# Altium schematic symbol library Amplifiers.SchLib: 48 symbols (part 1 of 3)
Pins are listed as number, name and electrical type; pins without a type are passive.

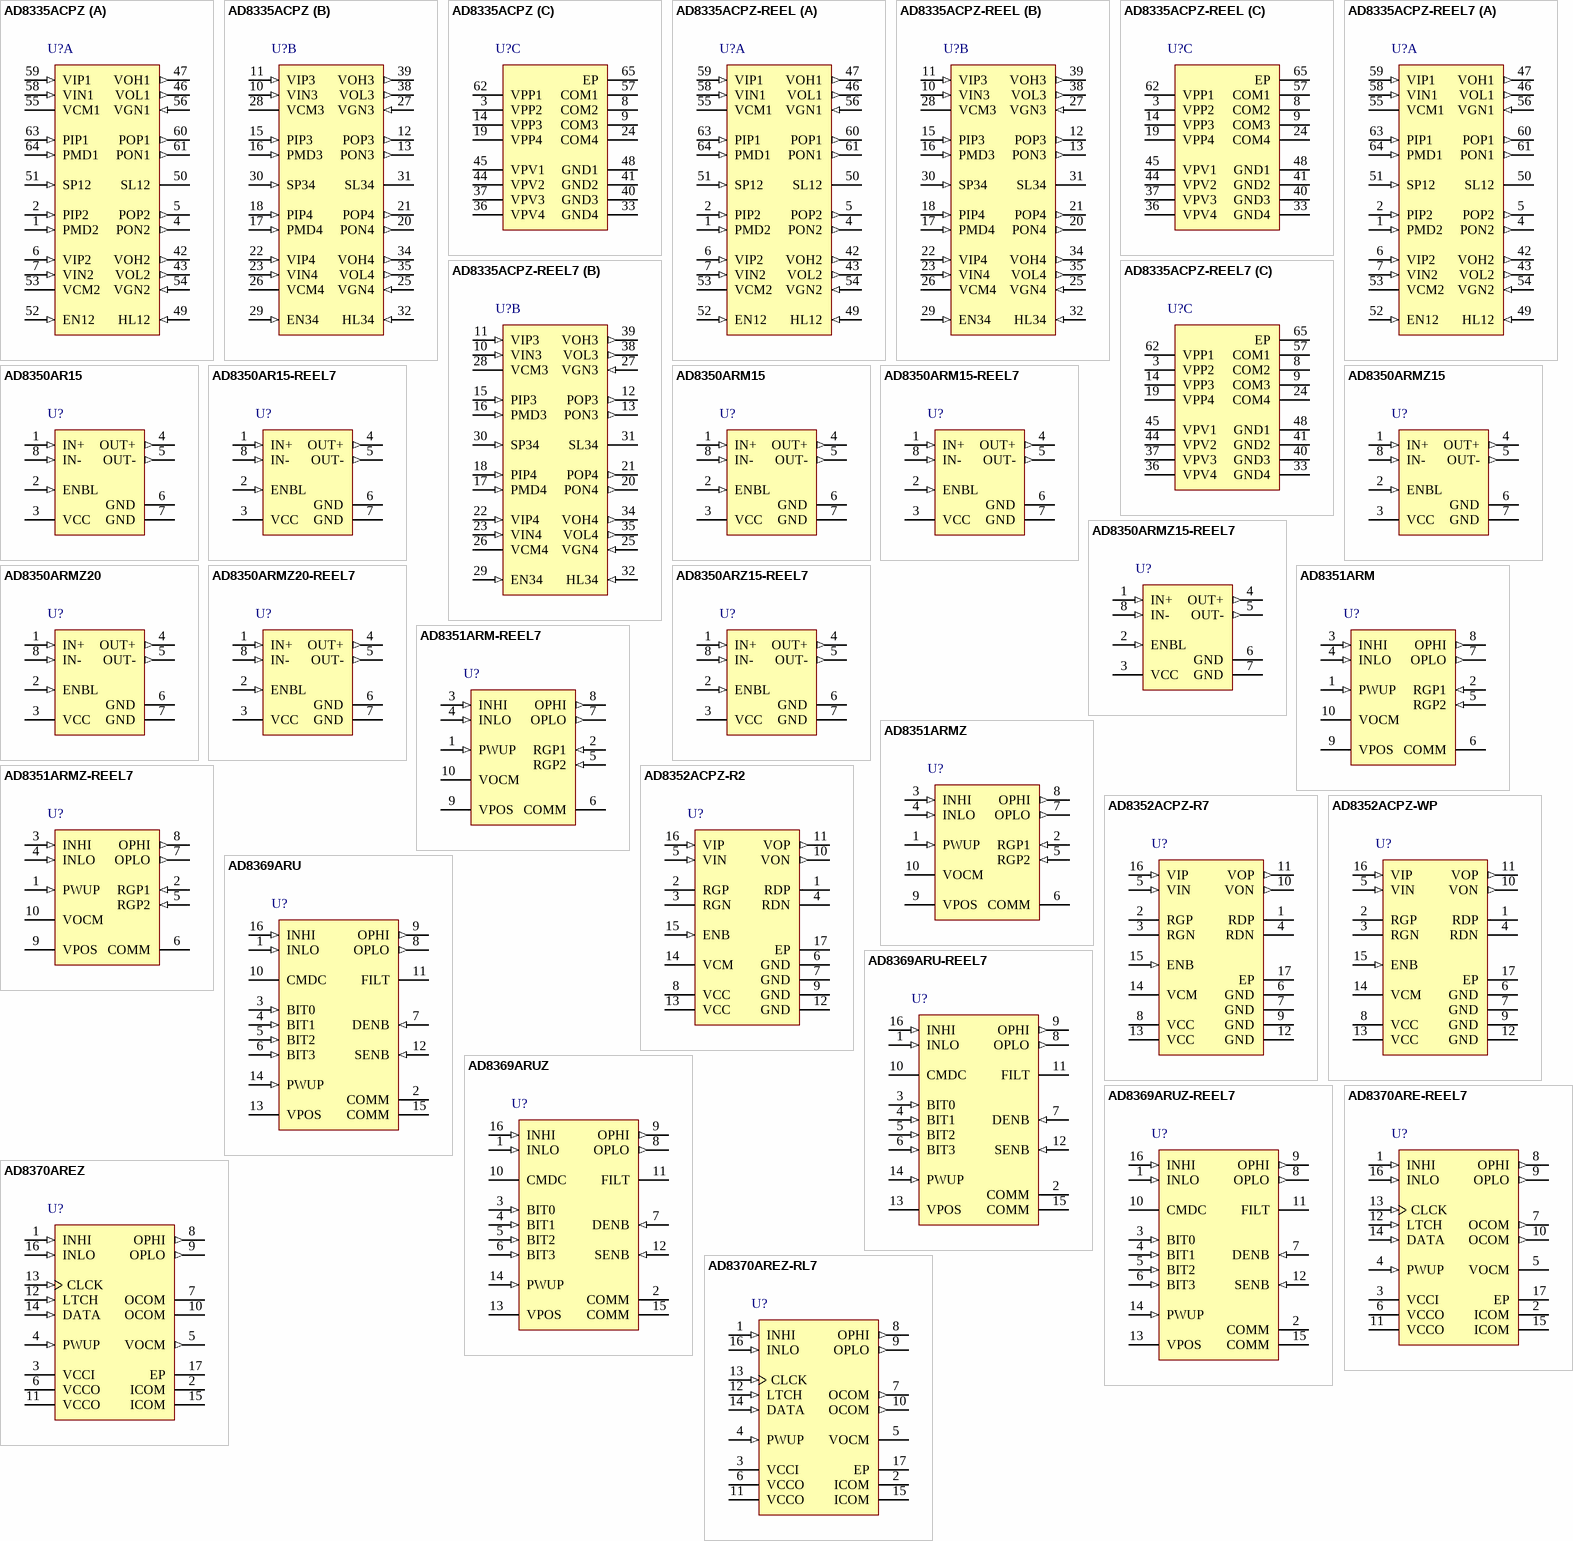
[diagram p0: symbols AD8335ACPZ to AD8370AREZ-RL7]

## AD8335ACPZ
designator U?
Quad Low Noise, Low Cost Variable Gain Amplifier, 48dB, 5V, 76mA, CP-64-1, Pb-Free, 260 Tray; -3 dB BW: 70MHz; Spectral Noise: 1.3(nV/rtHz); DatasheetVersion: Rev. B; PackageVersion: 063006-B; PackageReference: CP-64-1; PackageDescription: 64-Lead Lead Frame Chip Scale Package [LFCSP_VQ]; Gain: 48dB; Supply Voltage (V): 5V; Code_JEDEC: MO-220-VMMD-4; ComponentLink1Description: Manufacturer URL; ComponentLink1URL: www.analog.com; ComponentLink2Description: Datasheet; ComponentLink2URL: http://www.analog.com/static/imported-files/data_sheets/AD8335.pdf; ComponentLink3Description: Package Specification; ComponentLink3URL: http://www.analog.com/static/imported-files/packages/PKG_PDF/LFCSP(CP)/CP-64/CP_64_1.pdf
footprint ADI-CP-64-1_N (QFN, 64-Leads, Body 9x9mm, Pitch 0.5mm, Thermal Pad 4.7x4.7mm, IPC Medium Density)
footprint ADI-CP-64-1_L (QFN, 64-Leads, Body 9x9mm, Pitch 0.5mm, Thermal Pad 4.7x4.7mm, IPC High Density)
footprint ADI-CP-64-1_M (QFN, 64-Leads, Body 9x9mm, Pitch 0.5mm, Thermal Pad 4.7x4.7mm, IPC Low Density)
part A pins: 1 PMD2 (in) "Preamp Input Common--CH2", 2 PIP2 (in) "Preamp Input--CH2", 4 PON2 (out) "Preamp Output Negative--CH2", 5 POP2 (out) "Preamp Output Positive--CH2", 6 VIP2 (in) "VGA Input Positive--CH2", 7 VIN2 (in) "VGA Input Negative--CH2", 42 VOH2 (out) "VGA Output Positive--CH2", 43 VOL2 (out) "VGA Output Negative--CH2", 46 VOL1 (out) "VGA Output Negative--CH1", 47 VOH1 (out) "VGA Output Positive--CH1", 49 HL12 (in) "High/Low Pin--CH1 and CH2", 50 SL12 "Slope Decoupling Pin--CH1 and CH2", 51 SP12 (in) "Shut down--Preamp1 and Preamp2", 52 EN12 (in) "Enable--CH1 and CH2", 53 VCM2 "Common-Mode Decoupling Pin--CH2", 54 VGN2 (in) "Gain Control--CH2", 55 VCM1 "Common-Mode Decoupling Pin--CH1", 56 VGN1 (in) "Gain Control--CH1", 58 VIN1 (in) "VGA Input Negative--CH1", 59 VIP1 (in) "VGA Input Positive--CH1", 60 POP1 (out) "Preamp Output Positive--CH1", 61 PON1 (out) "Preamp Output Negative--CH1", 63 PIP1 (in) "Preamp Input--CH1", 64 PMD1 (in) "Preamp Input Common--CH1"
part B pins: 10 VIN3 (in) "VGA Input Negative--CH3", 11 VIP3 (in) "VGA Input Positive--CH3", 12 POP3 (out) "Preamp Output Positive--CH3", 13 PON3 (out) "Preamp Output Negative--CH3", 15 PIP3 (in) "Preamp Input--CH3", 16 PMD3 (in) "Preamp Input Common--CH3", 17 PMD4 (in) "Preamp Input Common--CH4", 18 PIP4 (in) "Preamp Input--CH4", 20 PON4 (out) "Preamp Output Negative--CH4", 21 POP4 (out) "Preamp Output Positive--CH4", 22 VIP4 (in) "VGA Input Positive--CH4", 23 VIN4 (in) "VGA Input Negative--CH4", 25 VGN4 (in) "Gain Control--CH4", 26 VCM4 "Common-Mode Decoupling Pin--CH4", 27 VGN3 (in) "Gain Control--CH3", 28 VCM3 "Common-Mode Decoupling Pin--CH3", 29 EN34 (in) "Enable--CH3 and CH4", 30 SP34 (in) "Shut down--Preamp 3 and Preamp 4", 31 SL34 "Slope Decoupling Pin--CH3 and CH4", 32 HL34 (in) "High/LowPin--CH3 and CH4", 34 VOH4 (out) "VGA Output Positive--CH4", 35 VOL4 (out) "VGA Output Negative--CH4", 38 VOL3 (out) "VGA Output Negative--CH3", 39 VOH3 (out) "VGA Output Positive--CH3"
part C pins: 3 VPP2 (power) "Positive Supply Preamp--CH2", 8 COM2 (power) "Ground Preamp--CH2", 9 COM3 (power) "Ground Preamp--CH3", 14 VPP3 (power) "Positive Supply Preamp--CH3", 19 VPP4 (power) "Positive Supply Preamp--CH4", 24 COM4 (power) "Ground Preamp--CH4", 33 GND4 (power) "Ground VGA--CH4", 36 VPV4 (power) "Positive Supply VGA--CH4", 37 VPV3 (power) "Positive Supply VGA--CH3", 40 GND3 (power) "Ground VGA--CH3", 41 GND2 (power) "Ground VGA--CH2", 44 VPV2 (power) "Positive Supply VGA--CH2", 45 VPV1 (power) "Positive Supply VGA--CH1", 48 GND1 (power) "Ground VGA--CH1", 57 COM1 (power) "Ground Preamp--CH1", 62 VPP1 (power) "Positive Supply Preamp--CH1", 65 EP (power) "The exposed paddle must be soldered to the PCB ground to ensure proper heat dissipation, noise, and mechanical strength benefits."

## AD8335ACPZ-REEL
designator U?
Quad Low Noise, Low Cost Variable Gain Amplifier, 48dB, 5V, 76mA, CP-64-1, Pb-Free, 2500 Reel; -3 dB BW: 70MHz; Spectral Noise: 1.3(nV/rtHz); DatasheetVersion: Rev. B; PackageVersion: 063006-B; PackageReference: CP-64-1; PackageDescription: 64-Lead Lead Frame Chip Scale Package [LFCSP_VQ]; Gain: 48dB; Supply Voltage (V): 5V; Code_JEDEC: MO-220-VMMD-4; ComponentLink1Description: Manufacturer URL; ComponentLink1URL: www.analog.com; ComponentLink2Description: Datasheet; ComponentLink2URL: http://www.analog.com/static/imported-files/data_sheets/AD8335.pdf; ComponentLink3Description: Package Specification; ComponentLink3URL: http://www.analog.com/static/imported-files/packages/PKG_PDF/LFCSP(CP)/CP-64/CP_64_1.pdf
footprint ADI-CP-64-1_N (QFN, 64-Leads, Body 9x9mm, Pitch 0.5mm, Thermal Pad 4.7x4.7mm, IPC Medium Density)
footprint ADI-CP-64-1_L (QFN, 64-Leads, Body 9x9mm, Pitch 0.5mm, Thermal Pad 4.7x4.7mm, IPC High Density)
footprint ADI-CP-64-1_M (QFN, 64-Leads, Body 9x9mm, Pitch 0.5mm, Thermal Pad 4.7x4.7mm, IPC Low Density)
part A pins: 1 PMD2 (in) "Preamp Input Common--CH2", 2 PIP2 (in) "Preamp Input--CH2", 4 PON2 (out) "Preamp Output Negative--CH2", 5 POP2 (out) "Preamp Output Positive--CH2", 6 VIP2 (in) "VGA Input Positive--CH2", 7 VIN2 (in) "VGA Input Negative--CH2", 42 VOH2 (out) "VGA Output Positive--CH2", 43 VOL2 (out) "VGA Output Negative--CH2", 46 VOL1 (out) "VGA Output Negative--CH1", 47 VOH1 (out) "VGA Output Positive--CH1", 49 HL12 (in) "High/Low Pin--CH1 and CH2", 50 SL12 "Slope Decoupling Pin--CH1 and CH2", 51 SP12 (in) "Shut down--Preamp1 and Preamp2", 52 EN12 (in) "Enable--CH1 and CH2", 53 VCM2 "Common-Mode Decoupling Pin--CH2", 54 VGN2 (in) "Gain Control--CH2", 55 VCM1 "Common-Mode Decoupling Pin--CH1", 56 VGN1 (in) "Gain Control--CH1", 58 VIN1 (in) "VGA Input Negative--CH1", 59 VIP1 (in) "VGA Input Positive--CH1", 60 POP1 (out) "Preamp Output Positive--CH1", 61 PON1 (out) "Preamp Output Negative--CH1", 63 PIP1 (in) "Preamp Input--CH1", 64 PMD1 (in) "Preamp Input Common--CH1"
part B pins: 10 VIN3 (in) "VGA Input Negative--CH3", 11 VIP3 (in) "VGA Input Positive--CH3", 12 POP3 (out) "Preamp Output Positive--CH3", 13 PON3 (out) "Preamp Output Negative--CH3", 15 PIP3 (in) "Preamp Input--CH3", 16 PMD3 (in) "Preamp Input Common--CH3", 17 PMD4 (in) "Preamp Input Common--CH4", 18 PIP4 (in) "Preamp Input--CH4", 20 PON4 (out) "Preamp Output Negative--CH4", 21 POP4 (out) "Preamp Output Positive--CH4", 22 VIP4 (in) "VGA Input Positive--CH4", 23 VIN4 (in) "VGA Input Negative--CH4", 25 VGN4 (in) "Gain Control--CH4", 26 VCM4 "Common-Mode Decoupling Pin--CH4", 27 VGN3 (in) "Gain Control--CH3", 28 VCM3 "Common-Mode Decoupling Pin--CH3", 29 EN34 (in) "Enable--CH3 and CH4", 30 SP34 (in) "Shut down--Preamp 3 and Preamp 4", 31 SL34 "Slope Decoupling Pin--CH3 and CH4", 32 HL34 (in) "High/LowPin--CH3 and CH4", 34 VOH4 (out) "VGA Output Positive--CH4", 35 VOL4 (out) "VGA Output Negative--CH4", 38 VOL3 (out) "VGA Output Negative--CH3", 39 VOH3 (out) "VGA Output Positive--CH3"
part C pins: 3 VPP2 (power) "Positive Supply Preamp--CH2", 8 COM2 (power) "Ground Preamp--CH2", 9 COM3 (power) "Ground Preamp--CH3", 14 VPP3 (power) "Positive Supply Preamp--CH3", 19 VPP4 (power) "Positive Supply Preamp--CH4", 24 COM4 (power) "Ground Preamp--CH4", 33 GND4 (power) "Ground VGA--CH4", 36 VPV4 (power) "Positive Supply VGA--CH4", 37 VPV3 (power) "Positive Supply VGA--CH3", 40 GND3 (power) "Ground VGA--CH3", 41 GND2 (power) "Ground VGA--CH2", 44 VPV2 (power) "Positive Supply VGA--CH2", 45 VPV1 (power) "Positive Supply VGA--CH1", 48 GND1 (power) "Ground VGA--CH1", 57 COM1 (power) "Ground Preamp--CH1", 62 VPP1 (power) "Positive Supply Preamp--CH1", 65 EP (power) "The exposed paddle must be soldered to the PCB ground to ensure proper heat dissipation, noise, and mechanical strength benefits."

## AD8335ACPZ-REEL7
designator U?
Quad Low Noise, Low Cost Variable Gain Amplifier, 48dB, 5V, 76mA, CP-64-1, Pb-Free, 750 Reel; -3 dB BW: 70MHz; Spectral Noise: 1.3(nV/rtHz); DatasheetVersion: Rev. B; PackageVersion: 063006-B; PackageReference: CP-64-1; PackageDescription: 64-Lead Lead Frame Chip Scale Package [LFCSP_VQ]; Gain: 48dB; Supply Voltage (V): 5V; Code_JEDEC: MO-220-VMMD-4; ComponentLink1Description: Manufacturer URL; ComponentLink1URL: www.analog.com; ComponentLink2Description: Datasheet; ComponentLink2URL: http://www.analog.com/static/imported-files/data_sheets/AD8335.pdf; ComponentLink3Description: Package Specification; ComponentLink3URL: http://www.analog.com/static/imported-files/packages/PKG_PDF/LFCSP(CP)/CP-64/CP_64_1.pdf
footprint ADI-CP-64-1_N (QFN, 64-Leads, Body 9x9mm, Pitch 0.5mm, Thermal Pad 4.7x4.7mm, IPC Medium Density)
footprint ADI-CP-64-1_L (QFN, 64-Leads, Body 9x9mm, Pitch 0.5mm, Thermal Pad 4.7x4.7mm, IPC High Density)
footprint ADI-CP-64-1_M (QFN, 64-Leads, Body 9x9mm, Pitch 0.5mm, Thermal Pad 4.7x4.7mm, IPC Low Density)
part A pins: 1 PMD2 (in) "Preamp Input Common--CH2", 2 PIP2 (in) "Preamp Input--CH2", 4 PON2 (out) "Preamp Output Negative--CH2", 5 POP2 (out) "Preamp Output Positive--CH2", 6 VIP2 (in) "VGA Input Positive--CH2", 7 VIN2 (in) "VGA Input Negative--CH2", 42 VOH2 (out) "VGA Output Positive--CH2", 43 VOL2 (out) "VGA Output Negative--CH2", 46 VOL1 (out) "VGA Output Negative--CH1", 47 VOH1 (out) "VGA Output Positive--CH1", 49 HL12 (in) "High/Low Pin--CH1 and CH2", 50 SL12 "Slope Decoupling Pin--CH1 and CH2", 51 SP12 (in) "Shut down--Preamp1 and Preamp2", 52 EN12 (in) "Enable--CH1 and CH2", 53 VCM2 "Common-Mode Decoupling Pin--CH2", 54 VGN2 (in) "Gain Control--CH2", 55 VCM1 "Common-Mode Decoupling Pin--CH1", 56 VGN1 (in) "Gain Control--CH1", 58 VIN1 (in) "VGA Input Negative--CH1", 59 VIP1 (in) "VGA Input Positive--CH1", 60 POP1 (out) "Preamp Output Positive--CH1", 61 PON1 (out) "Preamp Output Negative--CH1", 63 PIP1 (in) "Preamp Input--CH1", 64 PMD1 (in) "Preamp Input Common--CH1"
part B pins: 10 VIN3 (in) "VGA Input Negative--CH3", 11 VIP3 (in) "VGA Input Positive--CH3", 12 POP3 (out) "Preamp Output Positive--CH3", 13 PON3 (out) "Preamp Output Negative--CH3", 15 PIP3 (in) "Preamp Input--CH3", 16 PMD3 (in) "Preamp Input Common--CH3", 17 PMD4 (in) "Preamp Input Common--CH4", 18 PIP4 (in) "Preamp Input--CH4", 20 PON4 (out) "Preamp Output Negative--CH4", 21 POP4 (out) "Preamp Output Positive--CH4", 22 VIP4 (in) "VGA Input Positive--CH4", 23 VIN4 (in) "VGA Input Negative--CH4", 25 VGN4 (in) "Gain Control--CH4", 26 VCM4 "Common-Mode Decoupling Pin--CH4", 27 VGN3 (in) "Gain Control--CH3", 28 VCM3 "Common-Mode Decoupling Pin--CH3", 29 EN34 (in) "Enable--CH3 and CH4", 30 SP34 (in) "Shut down--Preamp 3 and Preamp 4", 31 SL34 "Slope Decoupling Pin--CH3 and CH4", 32 HL34 (in) "High/LowPin--CH3 and CH4", 34 VOH4 (out) "VGA Output Positive--CH4", 35 VOL4 (out) "VGA Output Negative--CH4", 38 VOL3 (out) "VGA Output Negative--CH3", 39 VOH3 (out) "VGA Output Positive--CH3"
part C pins: 3 VPP2 (power) "Positive Supply Preamp--CH2", 8 COM2 (power) "Ground Preamp--CH2", 9 COM3 (power) "Ground Preamp--CH3", 14 VPP3 (power) "Positive Supply Preamp--CH3", 19 VPP4 (power) "Positive Supply Preamp--CH4", 24 COM4 (power) "Ground Preamp--CH4", 33 GND4 (power) "Ground VGA--CH4", 36 VPV4 (power) "Positive Supply VGA--CH4", 37 VPV3 (power) "Positive Supply VGA--CH3", 40 GND3 (power) "Ground VGA--CH3", 41 GND2 (power) "Ground VGA--CH2", 44 VPV2 (power) "Positive Supply VGA--CH2", 45 VPV1 (power) "Positive Supply VGA--CH1", 48 GND1 (power) "Ground VGA--CH1", 57 COM1 (power) "Ground Preamp--CH1", 62 VPP1 (power) "Positive Supply Preamp--CH1", 65 EP (power) "The exposed paddle must be soldered to the PCB ground to ensure proper heat dissipation, noise, and mechanical strength benefits."

## AD8350AR15
designator U?
Low Distortion 1.0 GHz Differential Amplifier, 20dB, 11V, 28mA, R-8, 98 Tube; -3 dB BW: 900MHz; Distortion (2nd): -66dBc; Distortion (3rd): -65dBc; Output IP3: 28dBm; Noise Figure: 5.6dB; Spectral Noise: 1.7(nV/rtHz); DatasheetVersion: Rev. A; PackageVersion: 060506-A; PackageReference: R-8; PackageDescription: 8-Lead Standard Small Outline Package [SOIC_N]; Gain: 20dB; Supply Voltage (V): 11V; Code_JEDEC: MS-012-AA; ComponentLink1Description: Manufacturer URL; ComponentLink1URL: www.analog.com; ComponentLink2Description: Datasheet; ComponentLink2URL: http://www.analog.com/static/imported-files/data_sheets/AD8350.pdf; ComponentLink3Description: Package Specification; ComponentLink3URL: http://www.analog.com/static/imported-files/packages/PKG_PDF/SOIC_Narrow%20(R)/R_8.pdf
footprint ADI-R-8_N (SOIC, 8-Leads, Body 4.9x3.9mm, Pitch 1.27mm, IPC Medium Density)
footprint ADI-R-8_L (SOIC, 8-Leads, Body 4.9x3.9mm, Pitch 1.27mm, IPC High Density)
footprint ADI-R-8_M (SOIC, 8-Leads, Body 4.9x3.9mm, Pitch 1.27mm, IPC Low Density)
pins: 1 IN+ (in) "Differential Inputs. IN+ and IN- should be ac-coupled (pins have a dc bias of midsupply). Differential input impedance is 200 ohm.", 2 ENBL (in) "Power-up Pin. A high level (5 V) enables the device; a low level (0 V) puts device in sleep mode.", 3 VCC (power) "Positive Supply Voltage. 5 V to 10 V.", 4 OUT+ (out) "Differential Outputs. OUT+ and OUT- should be ac-coupled (pins have a dc bias of midsupply). Differential input impedance is 200 ohm.", 5 OUT- (out) "Differential Outputs. OUT+ and OUT- should be ac-coupled (pins have a dc bias of midsupply). Differential input impedance is 200 ohm.", 6 GND (power) "Common External Ground Reference.", 7 GND (power) "Common External Ground Reference.", 8 IN- (in) "Differential Inputs. IN+ and IN- should be ac-coupled (pins have a dc bias of midsupply). Differential input impedance is 200 ohm."

## AD8350AR15-REEL7
designator U?
Low Distortion 1.0 GHz Differential Amplifier, 20dB, 11V, 28mA, R-8, 1000 Reel; -3 dB BW: 900MHz; Distortion (2nd): -66dBc; Distortion (3rd): -65dBc; Output IP3: 28dBm; Noise Figure: 5.6dB; Spectral Noise: 1.7(nV/rtHz); DatasheetVersion: Rev. A; PackageVersion: 060506-A; PackageReference: R-8; PackageDescription: 8-Lead Standard Small Outline Package [SOIC_N]; Gain: 20dB; Supply Voltage (V): 11V; Code_JEDEC: MS-012-AA; ComponentLink1Description: Manufacturer URL; ComponentLink1URL: www.analog.com; ComponentLink2Description: Datasheet; ComponentLink2URL: http://www.analog.com/static/imported-files/data_sheets/AD8350.pdf; ComponentLink3Description: Package Specification; ComponentLink3URL: http://www.analog.com/static/imported-files/packages/PKG_PDF/SOIC_Narrow%20(R)/R_8.pdf
footprint ADI-R-8_N (SOIC, 8-Leads, Body 4.9x3.9mm, Pitch 1.27mm, IPC Medium Density)
footprint ADI-R-8_L (SOIC, 8-Leads, Body 4.9x3.9mm, Pitch 1.27mm, IPC High Density)
footprint ADI-R-8_M (SOIC, 8-Leads, Body 4.9x3.9mm, Pitch 1.27mm, IPC Low Density)
pins: 1 IN+ (in) "Differential Inputs. IN+ and IN- should be ac-coupled (pins have a dc bias of midsupply). Differential input impedance is 200 ohm.", 2 ENBL (in) "Power-up Pin. A high level (5 V) enables the device; a low level (0 V) puts device in sleep mode.", 3 VCC (power) "Positive Supply Voltage. 5 V to 10 V.", 4 OUT+ (out) "Differential Outputs. OUT+ and OUT- should be ac-coupled (pins have a dc bias of midsupply). Differential input impedance is 200 ohm.", 5 OUT- (out) "Differential Outputs. OUT+ and OUT- should be ac-coupled (pins have a dc bias of midsupply). Differential input impedance is 200 ohm.", 6 GND (power) "Common External Ground Reference.", 7 GND (power) "Common External Ground Reference.", 8 IN- (in) "Differential Inputs. IN+ and IN- should be ac-coupled (pins have a dc bias of midsupply). Differential input impedance is 200 ohm."

## AD8350ARM15
designator U?
Low Distortion 1.0 GHz Differential Amplifier, 20dB, 11V, 28mA, RM-8, 50 Tube; -3 dB BW: 900MHz; Distortion (2nd): -66dBc; Distortion (3rd): -65dBc; Output IP3: 28dBm; Noise Figure: 5.6dB; Spectral Noise: 1.7(nV/rtHz); DatasheetVersion: Rev. A; PackageVersion: Aug-2005; PackageReference: RM-8; PackageDescription: 8-Lead Mini Small Outline Package [MSOP]; Gain: 20dB; Supply Voltage (V): 11V; Code_JEDEC: MO-187-AA; ComponentLink1Description: Manufacturer URL; ComponentLink1URL: www.analog.com; ComponentLink2Description: Datasheet; ComponentLink2URL: http://www.analog.com/static/imported-files/data_sheets/AD8350.pdf; ComponentLink3Description: Package Specification; ComponentLink3URL: http://www.analog.com/static/imported-files/packages/PKG_PDF/MSOP%28RM%29/RM_8.pdf
footprint ADI-RM-8_N (TSOP, 8-Leads, Body 3x3mm, Pitch 0.65mm, IPC Medium Density)
footprint ADI-RM-8_L (TSOP, 8-Leads, Body 3x3mm, Pitch 0.65mm, IPC High Density)
footprint ADI-RM-8_M (TSOP, 8-Leads, Body 3x3mm, Pitch 0.65mm, IPC Low Density)
pins: 1 IN+ (in) "Differential Inputs. IN+ and IN- should be ac-coupled (pins have a dc bias of midsupply). Differential input impedance is 200 ohm.", 2 ENBL (in) "Power-up Pin. A high level (5 V) enables the device; a low level (0 V) puts device in sleep mode.", 3 VCC (power) "Positive Supply Voltage. 5 V to 10 V.", 4 OUT+ (out) "Differential Outputs. OUT+ and OUT- should be ac-coupled (pins have a dc bias of midsupply). Differential input impedance is 200 ohm.", 5 OUT- (out) "Differential Outputs. OUT+ and OUT- should be ac-coupled (pins have a dc bias of midsupply). Differential input impedance is 200 ohm.", 6 GND (power) "Common External Ground Reference.", 7 GND (power) "Common External Ground Reference.", 8 IN- (in) "Differential Inputs. IN+ and IN- should be ac-coupled (pins have a dc bias of midsupply). Differential input impedance is 200 ohm."

## AD8350ARM15-REEL7
designator U?
Low Distortion 1.0 GHz Differential Amplifier, 20dB, 11V, 28mA, RM-8, 1000 Reel; -3 dB BW: 900MHz; Distortion (2nd): -66dBc; Distortion (3rd): -65dBc; Output IP3: 28dBm; Noise Figure: 5.6dB; Spectral Noise: 1.7(nV/rtHz); DatasheetVersion: Rev. A; PackageVersion: Aug-2005; PackageReference: RM-8; PackageDescription: 8-Lead Mini Small Outline Package [MSOP]; Gain: 20dB; Supply Voltage (V): 11V; Code_JEDEC: MO-187-AA; ComponentLink1Description: Manufacturer URL; ComponentLink1URL: www.analog.com; ComponentLink2Description: Datasheet; ComponentLink2URL: http://www.analog.com/static/imported-files/data_sheets/AD8350.pdf; ComponentLink3Description: Package Specification; ComponentLink3URL: http://www.analog.com/static/imported-files/packages/PKG_PDF/MSOP%28RM%29/RM_8.pdf
footprint ADI-RM-8_N (TSOP, 8-Leads, Body 3x3mm, Pitch 0.65mm, IPC Medium Density)
footprint ADI-RM-8_L (TSOP, 8-Leads, Body 3x3mm, Pitch 0.65mm, IPC High Density)
footprint ADI-RM-8_M (TSOP, 8-Leads, Body 3x3mm, Pitch 0.65mm, IPC Low Density)
pins: 1 IN+ (in) "Differential Inputs. IN+ and IN- should be ac-coupled (pins have a dc bias of midsupply). Differential input impedance is 200 ohm.", 2 ENBL (in) "Power-up Pin. A high level (5 V) enables the device; a low level (0 V) puts device in sleep mode.", 3 VCC (power) "Positive Supply Voltage. 5 V to 10 V.", 4 OUT+ (out) "Differential Outputs. OUT+ and OUT- should be ac-coupled (pins have a dc bias of midsupply). Differential input impedance is 200 ohm.", 5 OUT- (out) "Differential Outputs. OUT+ and OUT- should be ac-coupled (pins have a dc bias of midsupply). Differential input impedance is 200 ohm.", 6 GND (power) "Common External Ground Reference.", 7 GND (power) "Common External Ground Reference.", 8 IN- (in) "Differential Inputs. IN+ and IN- should be ac-coupled (pins have a dc bias of midsupply). Differential input impedance is 200 ohm."

## AD8350ARMZ15
designator U?
Low Distortion 1.0 GHz Differential Amplifier, 20dB, 11V, 28mA, Pb-Free, RM-8, 50 Tube; -3 dB BW: 900MHz; Distortion (2nd): -66dBc; Distortion (3rd): -65dBc; Output IP3: 28dBm; Noise Figure: 5.6dB; Spectral Noise: 1.7(nV/rtHz); DatasheetVersion: Rev. A; PackageVersion: Aug-2005; PackageReference: RM-8; PackageDescription: 8-Lead Mini Small Outline Package [MSOP]; Gain: 20dB; Supply Voltage (V): 11V; Code_JEDEC: MO-187-AA; ComponentLink1Description: Manufacturer URL; ComponentLink1URL: www.analog.com; ComponentLink2Description: Datasheet; ComponentLink2URL: http://www.analog.com/static/imported-files/data_sheets/AD8350.pdf; ComponentLink3Description: Package Specification; ComponentLink3URL: http://www.analog.com/static/imported-files/packages/PKG_PDF/MSOP%28RM%29/RM_8.pdf
footprint ADI-RM-8_N (TSOP, 8-Leads, Body 3x3mm, Pitch 0.65mm, IPC Medium Density)
footprint ADI-RM-8_L (TSOP, 8-Leads, Body 3x3mm, Pitch 0.65mm, IPC High Density)
footprint ADI-RM-8_M (TSOP, 8-Leads, Body 3x3mm, Pitch 0.65mm, IPC Low Density)
pins: 1 IN+ (in) "Differential Inputs. IN+ and IN- should be ac-coupled (pins have a dc bias of midsupply). Differential input impedance is 200 ohm.", 2 ENBL (in) "Power-up Pin. A high level (5 V) enables the device; a low level (0 V) puts device in sleep mode.", 3 VCC (power) "Positive Supply Voltage. 5 V to 10 V.", 4 OUT+ (out) "Differential Outputs. OUT+ and OUT- should be ac-coupled (pins have a dc bias of midsupply). Differential input impedance is 200 ohm.", 5 OUT- (out) "Differential Outputs. OUT+ and OUT- should be ac-coupled (pins have a dc bias of midsupply). Differential input impedance is 200 ohm.", 6 GND (power) "Common External Ground Reference.", 7 GND (power) "Common External Ground Reference.", 8 IN- (in) "Differential Inputs. IN+ and IN- should be ac-coupled (pins have a dc bias of midsupply). Differential input impedance is 200 ohm."

## AD8350ARMZ15-REEL7
designator U?
Low Distortion 1.0 GHz Differential Amplifier, 20dB, 11V, 28mA, Pb-Free, RM-8, 1000 Reel; -3 dB BW: 900MHz; Distortion (2nd): -66dBc; Distortion (3rd): -65dBc; Output IP3: 28dBm; Noise Figure: 5.6dB; Spectral Noise: 1.7(nV/rtHz); DatasheetVersion: Rev. A; PackageVersion: Aug-2005; PackageReference: RM-8; PackageDescription: 8-Lead Mini Small Outline Package [MSOP]; Gain: 20dB; Supply Voltage (V): 11V; Code_JEDEC: MO-187-AA; ComponentLink1Description: Manufacturer URL; ComponentLink1URL: www.analog.com; ComponentLink2Description: Datasheet; ComponentLink2URL: http://www.analog.com/static/imported-files/data_sheets/AD8350.pdf; ComponentLink3Description: Package Specification; ComponentLink3URL: http://www.analog.com/static/imported-files/packages/PKG_PDF/MSOP%28RM%29/RM_8.pdf
footprint ADI-RM-8_N (TSOP, 8-Leads, Body 3x3mm, Pitch 0.65mm, IPC Medium Density)
footprint ADI-RM-8_L (TSOP, 8-Leads, Body 3x3mm, Pitch 0.65mm, IPC High Density)
footprint ADI-RM-8_M (TSOP, 8-Leads, Body 3x3mm, Pitch 0.65mm, IPC Low Density)
pins: 1 IN+ (in) "Differential Inputs. IN+ and IN- should be ac-coupled (pins have a dc bias of midsupply). Differential input impedance is 200 ohm.", 2 ENBL (in) "Power-up Pin. A high level (5 V) enables the device; a low level (0 V) puts device in sleep mode.", 3 VCC (power) "Positive Supply Voltage. 5 V to 10 V.", 4 OUT+ (out) "Differential Outputs. OUT+ and OUT- should be ac-coupled (pins have a dc bias of midsupply). Differential input impedance is 200 ohm.", 5 OUT- (out) "Differential Outputs. OUT+ and OUT- should be ac-coupled (pins have a dc bias of midsupply). Differential input impedance is 200 ohm.", 6 GND (power) "Common External Ground Reference.", 7 GND (power) "Common External Ground Reference.", 8 IN- (in) "Differential Inputs. IN+ and IN- should be ac-coupled (pins have a dc bias of midsupply). Differential input impedance is 200 ohm."

## AD8350ARMZ20
designator U?
Low Distortion 1.0 GHz Differential Amplifier, 20dB, 11V, 28mA, RM-8, Pb-Free, 50 Tube; -3 dB BW: 900MHz; Distortion (2nd): -66dBc; Distortion (3rd): -65dBc; Output IP3: 28dBm; Noise Figure: 5.6dB; Spectral Noise: 1.7(nV/rtHz); DatasheetVersion: Rev. A; PackageVersion: Aug-2005; PackageReference: RM-8; PackageDescription: 8-Lead Mini Small Outline Package [MSOP]; Gain: 20dB; Supply Voltage (V): 11V; Code_JEDEC: MO-187-AA; ComponentLink1Description: Manufacturer URL; ComponentLink1URL: www.analog.com; ComponentLink2Description: Datasheet; ComponentLink2URL: http://www.analog.com/static/imported-files/data_sheets/AD8350.pdf; ComponentLink3Description: Package Specification; ComponentLink3URL: http://www.analog.com/static/imported-files/packages/PKG_PDF/MSOP%28RM%29/RM_8.pdf
footprint ADI-RM-8_N (TSOP, 8-Leads, Body 3x3mm, Pitch 0.65mm, IPC Medium Density)
footprint ADI-RM-8_L (TSOP, 8-Leads, Body 3x3mm, Pitch 0.65mm, IPC High Density)
footprint ADI-RM-8_M (TSOP, 8-Leads, Body 3x3mm, Pitch 0.65mm, IPC Low Density)
pins: 1 IN+ (in) "Differential Inputs. IN+ and IN- should be ac-coupled (pins have a dc bias of midsupply). Differential input impedance is 200 ohm.", 2 ENBL (in) "Power-up Pin. A high level (5 V) enables the device; a low level (0 V) puts device in sleep mode.", 3 VCC (power) "Positive Supply Voltage. 5 V to 10 V.", 4 OUT+ (out) "Differential Outputs. OUT+ and OUT- should be ac-coupled (pins have a dc bias of midsupply). Differential input impedance is 200 ohm.", 5 OUT- (out) "Differential Outputs. OUT+ and OUT- should be ac-coupled (pins have a dc bias of midsupply). Differential input impedance is 200 ohm.", 6 GND (power) "Common External Ground Reference.", 7 GND (power) "Common External Ground Reference.", 8 IN- (in) "Differential Inputs. IN+ and IN- should be ac-coupled (pins have a dc bias of midsupply). Differential input impedance is 200 ohm."

## AD8350ARMZ20-REEL7
designator U?
Low Distortion 1.0 GHz Differential Amplifier, 20dB, 11V, 28mA, RM-8, Pb-Free, 1000 Reel; -3 dB BW: 900MHz; Distortion (2nd): -66dBc; Distortion (3rd): -65dBc; Output IP3: 28dBm; Noise Figure: 5.6dB; Spectral Noise: 1.7(nV/rtHz); DatasheetVersion: Rev. A; PackageVersion: Aug-2005; PackageReference: RM-8; PackageDescription: 8-Lead Mini Small Outline Package [MSOP]; Gain: 20dB; Supply Voltage (V): 11V; Code_JEDEC: MO-187-AA; ComponentLink1Description: Manufacturer URL; ComponentLink1URL: www.analog.com; ComponentLink2Description: Datasheet; ComponentLink2URL: http://www.analog.com/static/imported-files/data_sheets/AD8350.pdf; ComponentLink3Description: Package Specification; ComponentLink3URL: http://www.analog.com/static/imported-files/packages/PKG_PDF/MSOP%28RM%29/RM_8.pdf
footprint ADI-RM-8_N (TSOP, 8-Leads, Body 3x3mm, Pitch 0.65mm, IPC Medium Density)
footprint ADI-RM-8_L (TSOP, 8-Leads, Body 3x3mm, Pitch 0.65mm, IPC High Density)
footprint ADI-RM-8_M (TSOP, 8-Leads, Body 3x3mm, Pitch 0.65mm, IPC Low Density)
pins: 1 IN+ (in) "Differential Inputs. IN+ and IN- should be ac-coupled (pins have a dc bias of midsupply). Differential input impedance is 200 ohm.", 2 ENBL (in) "Power-up Pin. A high level (5 V) enables the device; a low level (0 V) puts device in sleep mode.", 3 VCC (power) "Positive Supply Voltage. 5 V to 10 V.", 4 OUT+ (out) "Differential Outputs. OUT+ and OUT- should be ac-coupled (pins have a dc bias of midsupply). Differential input impedance is 200 ohm.", 5 OUT- (out) "Differential Outputs. OUT+ and OUT- should be ac-coupled (pins have a dc bias of midsupply). Differential input impedance is 200 ohm.", 6 GND (power) "Common External Ground Reference.", 7 GND (power) "Common External Ground Reference.", 8 IN- (in) "Differential Inputs. IN+ and IN- should be ac-coupled (pins have a dc bias of midsupply). Differential input impedance is 200 ohm."

## AD8350ARZ15-REEL7
designator U?
Low Distortion 1.0 GHz Differential Amplifier, 20dB, 11V, 28mA, R-8, Pb-Free, 1000 Reel; -3 dB BW: 900MHz; Distortion (2nd): -66dBc; Distortion (3rd): -65dBc; Output IP3: 28dBm; Noise Figure: 5.6dB; Spectral Noise: 1.7(nV/rtHz); DatasheetVersion: Rev. A; PackageVersion: 060506-A; PackageReference: R-8; PackageDescription: 8-Lead Standard Small Outline Package [SOIC_N]; Gain: 20dB; Supply Voltage (V): 11V; Code_JEDEC: MS-012-AA; ComponentLink1Description: Manufacturer URL; ComponentLink1URL: www.analog.com; ComponentLink2Description: Datasheet; ComponentLink2URL: http://www.analog.com/static/imported-files/data_sheets/AD8350.pdf; ComponentLink3Description: Package Specification; ComponentLink3URL: http://www.analog.com/static/imported-files/packages/PKG_PDF/SOIC_Narrow%20(R)/R_8.pdf
footprint ADI-R-8_N (SOIC, 8-Leads, Body 4.9x3.9mm, Pitch 1.27mm, IPC Medium Density)
footprint ADI-R-8_L (SOIC, 8-Leads, Body 4.9x3.9mm, Pitch 1.27mm, IPC High Density)
footprint ADI-R-8_M (SOIC, 8-Leads, Body 4.9x3.9mm, Pitch 1.27mm, IPC Low Density)
pins: 1 IN+ (in) "Differential Inputs. IN+ and IN- should be ac-coupled (pins have a dc bias of midsupply). Differential input impedance is 200 ohm.", 2 ENBL (in) "Power-up Pin. A high level (5 V) enables the device; a low level (0 V) puts device in sleep mode.", 3 VCC (power) "Positive Supply Voltage. 5 V to 10 V.", 4 OUT+ (out) "Differential Outputs. OUT+ and OUT- should be ac-coupled (pins have a dc bias of midsupply). Differential input impedance is 200 ohm.", 5 OUT- (out) "Differential Outputs. OUT+ and OUT- should be ac-coupled (pins have a dc bias of midsupply). Differential input impedance is 200 ohm.", 6 GND (power) "Common External Ground Reference.", 7 GND (power) "Common External Ground Reference.", 8 IN- (in) "Differential Inputs. IN+ and IN- should be ac-coupled (pins have a dc bias of midsupply). Differential input impedance is 200 ohm."

## AD8351ARM
designator U?
Low Distortion Differential RF/IF Amplifier, 26dB, 5V, 28mA, RM-10, 50 Tube; -3 dB BW: 2.2GHz; Distortion (2nd): -79dBc; Distortion (3rd): -81dBc; Output IP3: 31dBm; Noise Figure: 10dB; Spectral Noise: 2.7(nV/rtHz); DatasheetVersion: Rev. B; PackageVersion: 5/8/2005; PackageReference: RM-10; PackageDescription: 10-Lead Mini Small Outline Package [MSOP]; Gain: 26dB; Supply Voltage (V): 5V; Code_JEDEC: MO-187-BA; ComponentLink1Description: Manufacturer URL; ComponentLink1URL: www.analog.com; ComponentLink2Description: Datasheet; ComponentLink2URL: http://www.analog.com/static/imported-files/data_sheets/AD8351.pdf; ComponentLink3Description: Package Specification; ComponentLink3URL: http://www.analog.com/static/imported-files/packages/PKG_PDF/MSOP%28RM%29/RM_10.pdf
footprint ADI-RM-10_N (TSSOP, 10-Leads, Body 3x3mm, Pitch 0.5mm, IPC Medium Density)
footprint ADI-RM-10_L (TSSOP, 10-Leads, Body 3x3mm, Pitch 0.5mm, IPC High Density)
footprint ADI-RM-10_M (TSSOP, 10-Leads, Body 3x3mm, Pitch 0.5mm, IPC Low Density)
pins: 1 PWUP (in) "Apply a positive voltage (1.3 V =<VPWUP =< VPOS ) to activate device.", 2 RGP1 (in) "Gain Resistor Input 1.", 3 INHI (in) "Balanced Differential Input. Biased to midsupply, typically ac-coupled", 4 INLO (in) "Balanced Differential Input. Biased to midsupply, typically ac-coupled.", 5 RGP2 (in) "Gain Resistor Input 2.", 6 COMM (power) "Device Common. Connect to low impedance ground.", 7 OPLO (out) "Balanced Differential Output. Biased to VOCM, typically ac-coupled.", 8 OPHI (out) "Balanced Differential Output. Biased to VOCM, typically ac-coupled.", 9 VPOS (power) "Positive Supply Voltage. 3 V to 5.5 V.", 10 VOCM "Voltage applied to this pin sets the common-mode voltage at both the input and output.Typically decoupled to ground with a 0.1 uF capacitor."

## AD8351ARM-REEL7
designator U?
Low Distortion Differential RF/IF Amplifier, 26dB, 5V, 28mA, RM-10, 1000 Reel; -3 dB BW: 2.2GHz; Distortion (2nd): -79dBc; Distortion (3rd): -81dBc; Output IP3: 31dBm; Noise Figure: 10dB; Spectral Noise: 2.7(nV/rtHz); DatasheetVersion: Rev. B; PackageVersion: 5/8/2005; PackageReference: RM-10; PackageDescription: 10-Lead Mini Small Outline Package [MSOP]; Gain: 26dB; Supply Voltage (V): 5V; Code_JEDEC: MO-187-BA; ComponentLink1Description: Manufacturer URL; ComponentLink1URL: www.analog.com; ComponentLink2Description: Datasheet; ComponentLink2URL: http://www.analog.com/static/imported-files/data_sheets/AD8351.pdf; ComponentLink3Description: Package Specification; ComponentLink3URL: http://www.analog.com/static/imported-files/packages/PKG_PDF/MSOP%28RM%29/RM_10.pdf
footprint ADI-RM-10_N (TSSOP, 10-Leads, Body 3x3mm, Pitch 0.5mm, IPC Medium Density)
footprint ADI-RM-10_L (TSSOP, 10-Leads, Body 3x3mm, Pitch 0.5mm, IPC High Density)
footprint ADI-RM-10_M (TSSOP, 10-Leads, Body 3x3mm, Pitch 0.5mm, IPC Low Density)
pins: 1 PWUP (in) "Apply a positive voltage (1.3 V =<VPWUP =< VPOS ) to activate device.", 2 RGP1 (in) "Gain Resistor Input 1.", 3 INHI (in) "Balanced Differential Input. Biased to midsupply, typically ac-coupled", 4 INLO (in) "Balanced Differential Input. Biased to midsupply, typically ac-coupled.", 5 RGP2 (in) "Gain Resistor Input 2.", 6 COMM (power) "Device Common. Connect to low impedance ground.", 7 OPLO (out) "Balanced Differential Output. Biased to VOCM, typically ac-coupled.", 8 OPHI (out) "Balanced Differential Output. Biased to VOCM, typically ac-coupled.", 9 VPOS (power) "Positive Supply Voltage. 3 V to 5.5 V.", 10 VOCM "Voltage applied to this pin sets the common-mode voltage at both the input and output.Typically decoupled to ground with a 0.1 uF capacitor."

## AD8351ARMZ
designator U?
Low Distortion Differential RF/IF Amplifier, 26dB, 5V, 28mA, RM-10, Pb-Free, 50 Tube; -3 dB BW: 2.2GHz; Distortion (2nd): -79dBc; Distortion (3rd): -81dBc; Output IP3: 31dBm; Noise Figure: 10dB; Spectral Noise: 2.7(nV/rtHz); DatasheetVersion: Rev. B; PackageVersion: 5/8/2005; PackageReference: RM-10; PackageDescription: 10-Lead Mini Small Outline Package [MSOP]; Gain: 26dB; Supply Voltage (V): 5V; Code_JEDEC: MO-187-BA; ComponentLink1Description: Manufacturer URL; ComponentLink1URL: www.analog.com; ComponentLink2Description: Datasheet; ComponentLink2URL: http://www.analog.com/static/imported-files/data_sheets/AD8351.pdf; ComponentLink3Description: Package Specification; ComponentLink3URL: http://www.analog.com/static/imported-files/packages/PKG_PDF/MSOP%28RM%29/RM_10.pdf
footprint ADI-RM-10_N (TSSOP, 10-Leads, Body 3x3mm, Pitch 0.5mm, IPC Medium Density)
footprint ADI-RM-10_L (TSSOP, 10-Leads, Body 3x3mm, Pitch 0.5mm, IPC High Density)
footprint ADI-RM-10_M (TSSOP, 10-Leads, Body 3x3mm, Pitch 0.5mm, IPC Low Density)
pins: 1 PWUP (in) "Apply a positive voltage (1.3 V =<VPWUP =< VPOS ) to activate device.", 2 RGP1 (in) "Gain Resistor Input 1.", 3 INHI (in) "Balanced Differential Input. Biased to midsupply, typically ac-coupled", 4 INLO (in) "Balanced Differential Input. Biased to midsupply, typically ac-coupled.", 5 RGP2 (in) "Gain Resistor Input 2.", 6 COMM (power) "Device Common. Connect to low impedance ground.", 7 OPLO (out) "Balanced Differential Output. Biased to VOCM, typically ac-coupled.", 8 OPHI (out) "Balanced Differential Output. Biased to VOCM, typically ac-coupled.", 9 VPOS (power) "Positive Supply Voltage. 3 V to 5.5 V.", 10 VOCM "Voltage applied to this pin sets the common-mode voltage at both the input and output.Typically decoupled to ground with a 0.1 uF capacitor."

## AD8351ARMZ-REEL7
designator U?
Low Distortion Differential RF/IF Amplifier, 26dB, 5V, 28mA, RM-10, Pb-Free, 1000 Reel; -3 dB BW: 2.2GHz; Distortion (2nd): -79dBc; Distortion (3rd): -81dBc; Output IP3: 31dBm; Noise Figure: 10dB; Spectral Noise: 2.7(nV/rtHz); DatasheetVersion: Rev. B; PackageVersion: 5/8/2005; PackageReference: RM-10; PackageDescription: 10-Lead Mini Small Outline Package [MSOP]; Gain: 26dB; Supply Voltage (V): 5V; Code_JEDEC: MO-187-BA; ComponentLink1Description: Manufacturer URL; ComponentLink1URL: www.analog.com; ComponentLink2Description: Datasheet; ComponentLink2URL: http://www.analog.com/static/imported-files/data_sheets/AD8351.pdf; ComponentLink3Description: Package Specification; ComponentLink3URL: http://www.analog.com/static/imported-files/packages/PKG_PDF/MSOP%28RM%29/RM_10.pdf
footprint ADI-RM-10_N (TSSOP, 10-Leads, Body 3x3mm, Pitch 0.5mm, IPC Medium Density)
footprint ADI-RM-10_L (TSSOP, 10-Leads, Body 3x3mm, Pitch 0.5mm, IPC High Density)
footprint ADI-RM-10_M (TSSOP, 10-Leads, Body 3x3mm, Pitch 0.5mm, IPC Low Density)
pins: 1 PWUP (in) "Apply a positive voltage (1.3 V =<VPWUP =< VPOS ) to activate device.", 2 RGP1 (in) "Gain Resistor Input 1.", 3 INHI (in) "Balanced Differential Input. Biased to midsupply, typically ac-coupled", 4 INLO (in) "Balanced Differential Input. Biased to midsupply, typically ac-coupled.", 5 RGP2 (in) "Gain Resistor Input 2.", 6 COMM (power) "Device Common. Connect to low impedance ground.", 7 OPLO (out) "Balanced Differential Output. Biased to VOCM, typically ac-coupled.", 8 OPHI (out) "Balanced Differential Output. Biased to VOCM, typically ac-coupled.", 9 VPOS (power) "Positive Supply Voltage. 3 V to 5.5 V.", 10 VOCM "Voltage applied to this pin sets the common-mode voltage at both the input and output.Typically decoupled to ground with a 0.1 uF capacitor."

## AD8352ACPZ-R2
designator U?
2 GHz Ultralow Distortion Differential RF/IF Amplifier, 25dB, 5.5V, 37mA, CP-16-3, Pb-Free, 250 Reel; -3 dB BW: 2.2GHz; Distortion (2nd): -81dBc; Distortion (3rd): -87dBc; Output IP3: 41dBm; Spectral Noise: 2.7(nV/rtHz); DatasheetVersion: Rev. B; PackageVersion: Jan-2005; PackageReference: CP-16-3; PackageDescription: 16-Lead Lead Frame Chip Scale Package [LFCSP_VQ]; Gain: 25dB; Supply Voltage (V): 5.5V; Code_JEDEC: MO-220-VEED-2; ComponentLink1Description: Manufacturer URL; ComponentLink1URL: www.analog.com; ComponentLink2Description: Datasheet; ComponentLink2URL: http://www.analog.com/static/imported-files/data_sheets/AD8352.pdf; ComponentLink3Description: Package Specification; ComponentLink3URL: http://www.analog.com/static/imported-files/packages/PKG_PDF/LFCSP(CP)/CP_16_3.pdf
footprint ADI-CP-16-3_N (QFN, 16-Leads, Body 3x3mm, Pitch 0.5mm, Thermal Pad 1.5x1.5mm, IPC Medium Density)
footprint ADI-CP-16-3_L (QFN, 16-Leads, Body 3x3mm, Pitch 0.5mm, Thermal Pad 1.5x1.5mm, IPC High Density)
footprint ADI-CP-16-3_M (QFN, 16-Leads, Body 3x3mm, Pitch 0.5mm, Thermal Pad 1.5x1.5mm, IPC Low Density)
pins: 1 RDP "Positive Distortion Adjust.", 2 RGP "Positive Gain Adjust.", 3 RGN "Negative Gain Adjust.", 4 RDN "Negative Distortion Adjust.", 5 VIN (in) "Balanced Differential Input.This pin is biased to VCM,typically ac-coupled.", 6 GND (power) "Ground.Connect this pin to low impedance GND.", 7 GND (power) "Ground.Connect this pin to low impedance GND.", 8 VCC (power) "Positive Supply.", 9 GND (power) "Ground.Connect this pin to low impedance GND.", 10 VON (out) "Balanced Differential Output.This pin is biased to VCM,typically ac-coupled.", 11 VOP (out) "Balanced Differential Output.This pin is biased to VCM,typically ac-coupled.", 12 GND (power) "Ground.Connect this pin to low impedance GND.", 13 VCC (power) "Positive Supply.", 14 VCM "Common-Mode Voltage. A voltage applied to this pin sets the common-mode voltage of the input and output. Typically decoupled to ground with a 0.1 uF capacitor. [see datasheet]", 15 ENB (in) "Enable. Apply positive voltage (1.3 V < ENB < VCC) to activate device", 16 VIP (in) "Balanced Differential Input. This pin is biased to VCM, typically ac-coupled", 17 EP (power) "Exposed pad must be soldered to ground."

## AD8352ACPZ-R7
designator U?
2 GHz Ultralow Distortion Differential RF/IF Amplifier, 25dB, 5.5V, 37mA, CP-16-3, Pb-Free, 1500 Reel; -3 dB BW: 2.2GHz; Distortion (2nd): -81dBc; Distortion (3rd): -87dBc; Output IP3: 41dBm; Spectral Noise: 2.7(nV/rtHz); DatasheetVersion: Rev. B; PackageVersion: Jan-2005; PackageReference: CP-16-3; PackageDescription: 16-Lead Lead Frame Chip Scale Package [LFCSP_VQ]; Gain: 25dB; Supply Voltage (V): 5.5V; Code_JEDEC: MO-220-VEED-2; ComponentLink1Description: Manufacturer URL; ComponentLink1URL: www.analog.com; ComponentLink2Description: Datasheet; ComponentLink2URL: http://www.analog.com/static/imported-files/data_sheets/AD8352.pdf; ComponentLink3Description: Package Specification; ComponentLink3URL: http://www.analog.com/static/imported-files/packages/PKG_PDF/LFCSP(CP)/CP_16_3.pdf
footprint ADI-CP-16-3_N (QFN, 16-Leads, Body 3x3mm, Pitch 0.5mm, Thermal Pad 1.5x1.5mm, IPC Medium Density)
footprint ADI-CP-16-3_L (QFN, 16-Leads, Body 3x3mm, Pitch 0.5mm, Thermal Pad 1.5x1.5mm, IPC High Density)
footprint ADI-CP-16-3_M (QFN, 16-Leads, Body 3x3mm, Pitch 0.5mm, Thermal Pad 1.5x1.5mm, IPC Low Density)
pins: 1 RDP "Positive Distortion Adjust.", 2 RGP "Positive Gain Adjust.", 3 RGN "Negative Gain Adjust.", 4 RDN "Negative Distortion Adjust.", 5 VIN (in) "Balanced Differential Input.This pin is biased to VCM,typically ac-coupled.", 6 GND (power) "Ground.Connect this pin to low impedance GND.", 7 GND (power) "Ground.Connect this pin to low impedance GND.", 8 VCC (power) "Positive Supply.", 9 GND (power) "Ground.Connect this pin to low impedance GND.", 10 VON (out) "Balanced Differential Output.This pin is biased to VCM,typically ac-coupled.", 11 VOP (out) "Balanced Differential Output.This pin is biased to VCM,typically ac-coupled.", 12 GND (power) "Ground.Connect this pin to low impedance GND.", 13 VCC (power) "Positive Supply.", 14 VCM "Common-Mode Voltage. A voltage applied to this pin sets the common-mode voltage of the input and output. Typically decoupled to ground with a 0.1 uF capacitor. [see datasheet]", 15 ENB (in) "Enable. Apply positive voltage (1.3 V < ENB < VCC) to activate device", 16 VIP (in) "Balanced Differential Input. This pin is biased to VCM, typically ac-coupled", 17 EP (power) "Exposed pad must be soldered to ground."

## AD8352ACPZ-WP
designator U?
2 GHz Ultralow Distortion Differential RF/IF Amplifier, 25dB, 5.5V, 37mA, CP-16-3, Pb-Free, 50 Tray; -3 dB BW: 2.2GHz; Distortion (2nd): -81dBc; Distortion (3rd): -87dBc; Output IP3: 41dBm; Spectral Noise: 2.7(nV/rtHz); DatasheetVersion: Rev. B; PackageVersion: Jan-2005; PackageReference: CP-16-3; PackageDescription: 16-Lead Lead Frame Chip Scale Package [LFCSP_VQ]; Gain: 25dB; Supply Voltage (V): 5.5V; Code_JEDEC: MO-220-VEED-2; ComponentLink1Description: Manufacturer URL; ComponentLink1URL: www.analog.com; ComponentLink2Description: Datasheet; ComponentLink2URL: http://www.analog.com/static/imported-files/data_sheets/AD8352.pdf; ComponentLink3Description: Package Specification; ComponentLink3URL: http://www.analog.com/static/imported-files/packages/PKG_PDF/LFCSP(CP)/CP_16_3.pdf
footprint ADI-CP-16-3_N (QFN, 16-Leads, Body 3x3mm, Pitch 0.5mm, Thermal Pad 1.5x1.5mm, IPC Medium Density)
footprint ADI-CP-16-3_L (QFN, 16-Leads, Body 3x3mm, Pitch 0.5mm, Thermal Pad 1.5x1.5mm, IPC High Density)
footprint ADI-CP-16-3_M (QFN, 16-Leads, Body 3x3mm, Pitch 0.5mm, Thermal Pad 1.5x1.5mm, IPC Low Density)
pins: 1 RDP "Positive Distortion Adjust.", 2 RGP "Positive Gain Adjust.", 3 RGN "Negative Gain Adjust.", 4 RDN "Negative Distortion Adjust.", 5 VIN (in) "Balanced Differential Input.This pin is biased to VCM,typically ac-coupled.", 6 GND (power) "Ground.Connect this pin to low impedance GND.", 7 GND (power) "Ground.Connect this pin to low impedance GND.", 8 VCC (power) "Positive Supply.", 9 GND (power) "Ground.Connect this pin to low impedance GND.", 10 VON (out) "Balanced Differential Output.This pin is biased to VCM,typically ac-coupled.", 11 VOP (out) "Balanced Differential Output.This pin is biased to VCM,typically ac-coupled.", 12 GND (power) "Ground.Connect this pin to low impedance GND.", 13 VCC (power) "Positive Supply.", 14 VCM "Common-Mode Voltage. A voltage applied to this pin sets the common-mode voltage of the input and output. Typically decoupled to ground with a 0.1 uF capacitor. [see datasheet]", 15 ENB (in) "Enable. Apply positive voltage (1.3 V < ENB < VCC) to activate device", 16 VIP (in) "Balanced Differential Input. This pin is biased to VCM, typically ac-coupled", 17 EP (power) "Exposed pad must be soldered to ground."

## AD8369ARU
designator U?
45 dB Digitally Controlled VGA LF to 600 MHz, 45dB, 5.5V, 37mA, RU-16, 96 Tube; -3 dB BW: 600MHz; Distortion (2nd): 68dBc; Distortion (3rd): 64dBc; Output IP3: 19.5dBm; Noise Figure: 7dB; Spectral Noise: 2(nV/rtHz); DatasheetVersion: Rev. 0; PackageVersion: Nov-2002; PackageReference: RU-16; PackageDescription: 16-Lead Thin Shrink Small Outline Package [TSSOP]; Gain: 45dB; Supply Voltage (V): 5.5V; Code_JEDEC: MO-153AB; ComponentLink1Description: Manufacturer URL; ComponentLink1URL: www.analog.com; ComponentLink2Description: Datasheet; ComponentLink2URL: http://www.analog.com/static/imported-files/data_sheets/AD8369.pdf; ComponentLink3Description: Package Specification; ComponentLink3URL: http://www.analog.com/static/imported-files/packages/36244347913743854010197452789RU16.pdf
footprint ADI-RU-16_N (TSOP, 16-Leads, Body 5x4.4mm, Pitch 0.65mm, IPC Medium Density)
footprint ADI-RU-16_L (TSOP, 16-Leads, Body 5x4.4mm, Pitch 0.65mm, IPC High Density)
footprint ADI-RU-16_M (TSOP, 16-Leads, Body 5x4.4mm, Pitch 0.65mm, IPC Low Density)
pins: 1 INLO (in) "Balanced Differential Input.Internally biased,should be ac-coupled.", 2 COMM (power) "Device Common.Connect to low impedance ground.", 3 BIT0 (in) "Gain Selection Least Significant Bit. Used as DATA input signal when in serial mode of operation.", 4 BIT1 (in) "Gain Selection Control Bit. Used as CLOCK input pin when in serial mode of operation.", 5 BIT2 (in) "Gain Selection Control Bit. Inactive when in serial mode of operatio", 6 BIT3 (in) "Gain Selection Most Significant Bit. Inactive when in serial mode of operation", 7 DENB (in) "Data Enable Pin. Writes data to register. See Timing Specifications for details.", 8 OPLO (out) "Balanced Differential Output. Biased to midsupply, should be ac-coupled.", 9 OPHI (out) "Balanced Differential Output. Biased to midsupply, should be ac-coupled.", 10 CMDC "Common-Mode Decoupling Pin. Connect bypass capacitor to ground for additional common-mode supply decoupling beyond the existing internal decoupling.", 11 FILT "High-Pass Filter Connection. Used to set high-pass corner frequency.", 12 SENB (in) "Serial or Parallel Interface Select. Connect SENB to VPOS for serial operation. Connect SENB to COMM for parallel operation.", 13 VPOS (power) "Positive Supply Voltage,VS=+3V to +5.5.", 14 PWUP (in) "Power-Up Pin. Connect PWUP to VPOS to power up the device. Connect PWUP to COMM to power-down.", 15 COMM (power) "Device Common. Connect to a low impedance ground.", 16 INHI (in) "Balanced Differential Input. Internally biased, should be ac-coupled."

## AD8369ARU-REEL7
designator U?
45 dB Digitally Controlled VGA LF to 600 MHz, 45dB, 5.5V, 37mA, RU-16, 1000 Reel; -3 dB BW: 600MHz; Distortion (2nd): 68dBc; Distortion (3rd): 64dBc; Output IP3: 19.5dBm; Noise Figure: 7dB; Spectral Noise: 2(nV/rtHz); DatasheetVersion: Rev. 0; PackageVersion: Nov-2002; PackageReference: RU-16; PackageDescription: 16-Lead Thin Shrink Small Outline Package [TSSOP]; Gain: 45dB; Supply Voltage (V): 5.5V; Code_JEDEC: MO-153AB; ComponentLink1Description: Manufacturer URL; ComponentLink1URL: www.analog.com; ComponentLink2Description: Datasheet; ComponentLink2URL: http://www.analog.com/static/imported-files/data_sheets/AD8369.pdf; ComponentLink3Description: Package Specification; ComponentLink3URL: http://www.analog.com/static/imported-files/packages/36244347913743854010197452789RU16.pdf
footprint ADI-RU-16_N (TSOP, 16-Leads, Body 5x4.4mm, Pitch 0.65mm, IPC Medium Density)
footprint ADI-RU-16_L (TSOP, 16-Leads, Body 5x4.4mm, Pitch 0.65mm, IPC High Density)
footprint ADI-RU-16_M (TSOP, 16-Leads, Body 5x4.4mm, Pitch 0.65mm, IPC Low Density)
pins: 1 INLO (in) "Balanced Differential Input.Internally biased,should be ac-coupled.", 2 COMM (power) "Device Common.Connect to low impedance ground.", 3 BIT0 (in) "Gain Selection Least Significant Bit. Used as DATA input signal when in serial mode of operation.", 4 BIT1 (in) "Gain Selection Control Bit. Used as CLOCK input pin when in serial mode of operation.", 5 BIT2 (in) "Gain Selection Control Bit. Inactive when in serial mode of operatio", 6 BIT3 (in) "Gain Selection Most Significant Bit. Inactive when in serial mode of operation", 7 DENB (in) "Data Enable Pin. Writes data to register. See Timing Specifications for details.", 8 OPLO (out) "Balanced Differential Output. Biased to midsupply, should be ac-coupled.", 9 OPHI (out) "Balanced Differential Output. Biased to midsupply, should be ac-coupled.", 10 CMDC "Common-Mode Decoupling Pin. Connect bypass capacitor to ground for additional common-mode supply decoupling beyond the existing internal decoupling.", 11 FILT "High-Pass Filter Connection. Used to set high-pass corner frequency.", 12 SENB (in) "Serial or Parallel Interface Select. Connect SENB to VPOS for serial operation. Connect SENB to COMM for parallel operation.", 13 VPOS (power) "Positive Supply Voltage,VS=+3V to +5.5.", 14 PWUP (in) "Power-Up Pin. Connect PWUP to VPOS to power up the device. Connect PWUP to COMM to power-down.", 15 COMM (power) "Device Common. Connect to a low impedance ground.", 16 INHI (in) "Balanced Differential Input. Internally biased, should be ac-coupled."